# EAGLE library part 218_4LPSTR (library custom_parts)
4 position DIP switch
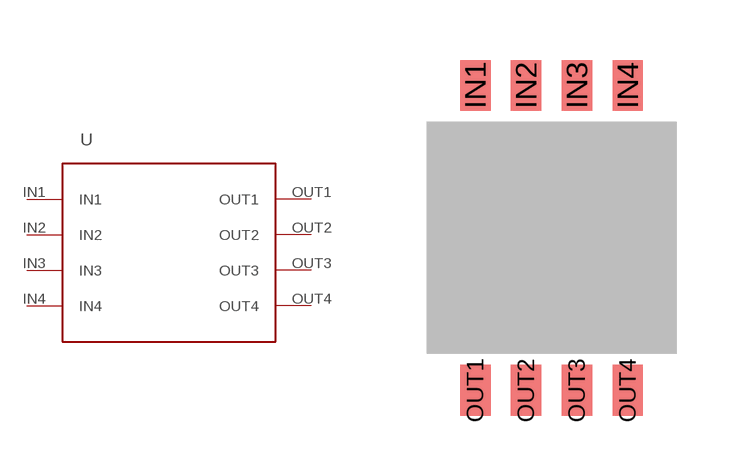
[diagram p4: symbol with the pads of 218_4LPSTR; footprint 218_4LPSTR]

Designator prefix -

## 218_4LPSTR  [218_4LPSTR]
IN1  IN1
IN2  IN2
IN3  IN3
IN4  IN4
OUT1  OUT1
OUT2  OUT2
OUT3  OUT3
OUT4  OUT4

## Footprint 218_4LPSTR (pad centres in mm)
smd 0.76 x 1.27: IN1 -1.95,3.81; IN2 -0.68,3.81; IN3 0.59,3.81; IN4 1.86,3.81; OUT1 -1.95,-3.81; OUT2 -0.68,-3.81; OUT3 0.59,-3.81; OUT4 1.86,-3.81